# Altium footprint library MPU6050_PCBLIB.PcbLib: 12 footprints
Each footprint in its own frame and in the unit in brackets; x right, y up, seen from the top. Pads: shape width x height; smd on the part's side, far side on the other; paste and mask are expansions set on the pad; w line width, h text height; cw(c..) or ccw(c..) is an arc to the next point about the centre after c.
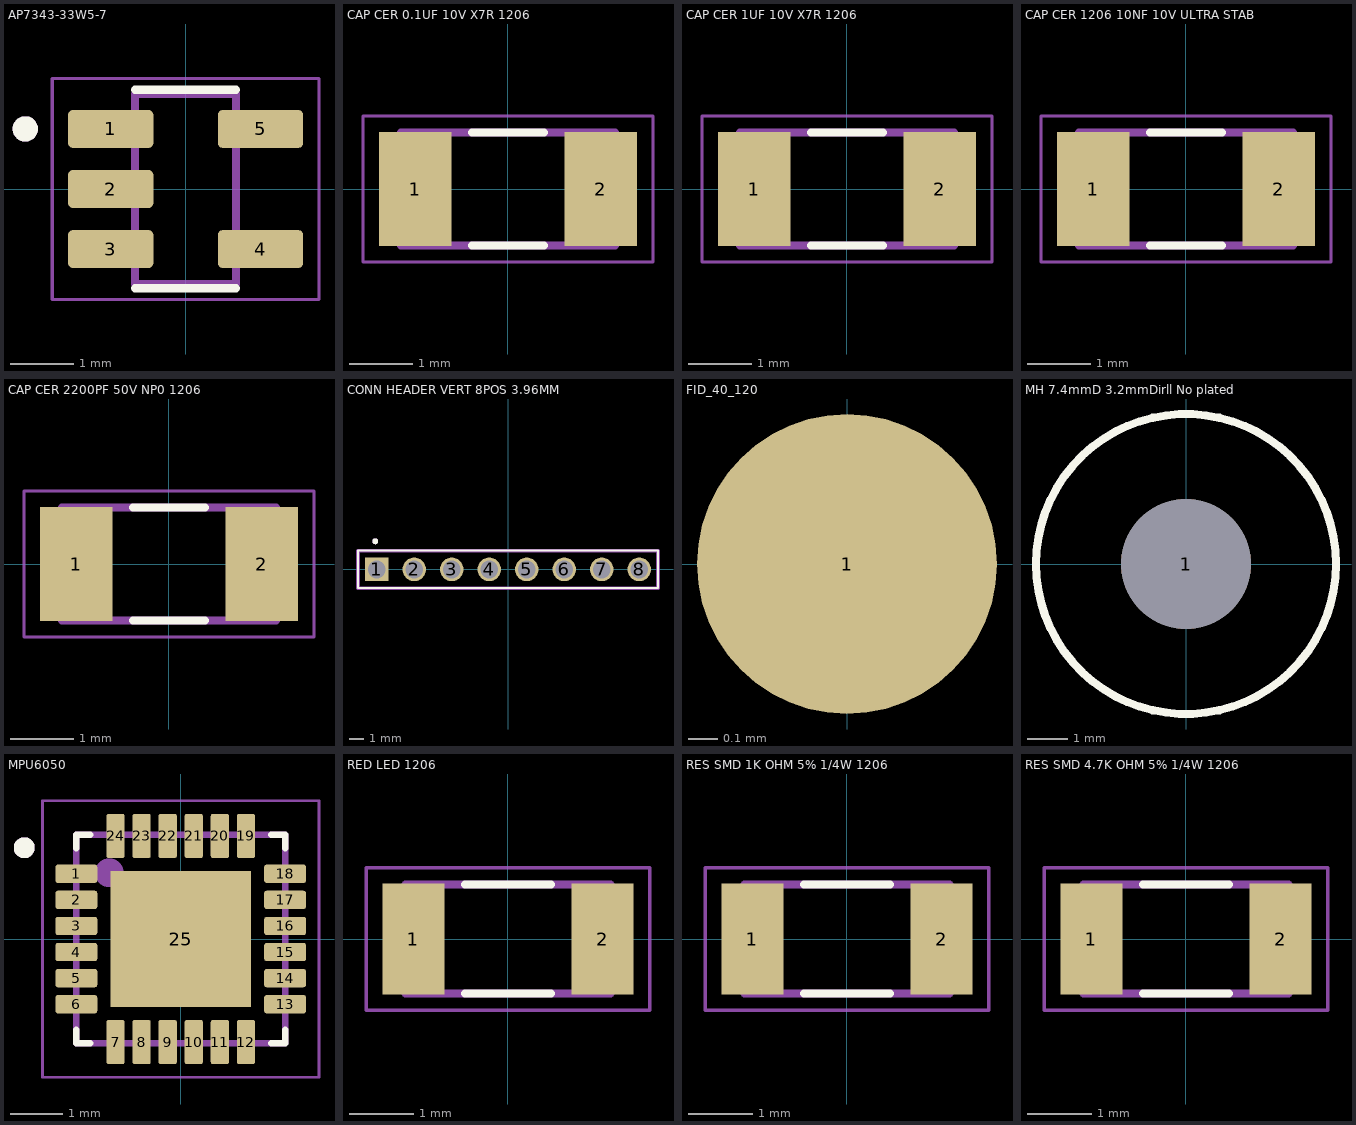
[diagram p0: the footprints below, top view; thin cyan lines are the x and y axes]

## AP7343-33W5-7 [mm] "SOT25"
pads (5):
  rrect25% 1.35x0.6 smd: 1(-1.185,0.95) 2(-1.185,0) 3(-1.185,-0.95) 4(1.185,-0.95) 5(1.185,0.95)
Top Overlay:
  circle w0.2: c-2.535,0.95 r0.1
  lines w0.127: -0.8,-1.57 0.8,-1.57 ; -0.8,1.57 0.8,1.57
Mechanical 15:
  lines w0.05: -2.11,-1.75 2.11,-1.75 2.11,1.75 -2.11,1.75 -2.11,-1.75
Mechanical 29:
  circle w0.2: c-2.535,0.95 r0.1
  lines w0.127: -0.8,-1.5 -0.8,1.5 0.8,1.5 0.8,-1.5 -0.8,-1.5
  text ".Designator" at 0,0 h3
3D body: height 1.4, standoff 0, extent -1.4,-1.5 1.4,1.5

## CAP CER 0.1UF 10V X7R 1206 [mm]
pads (2):
  rect 1.16x1.82 smd: 1(-1.475,0) 2(1.475,0)
Top Overlay:
  lines w0.127: -0.57,-0.9 0.57,-0.9 ; -0.57,0.9 0.57,0.9
Mechanical 15:
  lines w0.05: -2.308,-1.158 2.308,-1.158 2.308,1.158 -2.308,1.158 -2.308,-1.158
Mechanical 29:
  lines w0.127: -1.7,-0.9 1.7,-0.9 1.7,0.9 -1.7,0.9 -1.7,-0.9
  text ".designator" at 0,0 h1
3D body: height 1.4, standoff 0, extent -1.6,-0.8 1.6,0.8

## CAP CER 1UF 10V X7R 1206 [mm]
pads (2):
  rect 1.16x1.82 smd: 1(-1.475,0) 2(1.475,0)
Top Overlay:
  lines w0.127: -0.57,-0.9 0.57,-0.9 ; -0.57,0.9 0.57,0.9
Mechanical 15:
  lines w0.05: -2.308,-1.158 2.308,-1.158 2.308,1.158 -2.308,1.158 -2.308,-1.158
Mechanical 29:
  lines w0.127: -1.7,-0.9 1.7,-0.9 1.7,0.9 -1.7,0.9 -1.7,-0.9
  text ".designator" at 0,0 h1
3D body: height 1.4, standoff 0, extent -1.6,-0.8 1.6,0.8

## CAP CER 1206 10NF 10V ULTRA STAB [mm]
pads (2):
  rect 1.16x1.82 smd: 1(-1.475,0) 2(1.475,0)
Top Overlay:
  lines w0.127: -0.57,-0.9 0.57,-0.9 ; -0.57,0.9 0.57,0.9
Mechanical 15:
  lines w0.05: -2.308,-1.158 2.308,-1.158 2.308,1.158 -2.308,1.158 -2.308,-1.158
Mechanical 29:
  lines w0.127: -1.7,-0.9 1.7,-0.9 1.7,0.9 -1.7,0.9 -1.7,-0.9
  text ".designator" at 0,0 h1
3D body: height 1.4, standoff 0, extent -1.6,-0.8 1.6,0.8

## CAP CER 2200PF 50V NP0 1206 [mm]
pads (2):
  rect 1.16x1.82 smd: 1(-1.475,0) 2(1.475,0)
Top Overlay:
  lines w0.127: -0.57,-0.9 0.57,-0.9 ; -0.57,0.9 0.57,0.9
Mechanical 15:
  lines w0.05: -2.308,-1.158 -2.308,1.158 2.308,1.158 2.308,-1.158 -2.308,-1.158
Mechanical 29:
  lines w0.127: -1.7,-0.9 -1.7,0.9 1.7,0.9 1.7,-0.9 -1.7,-0.9
  text ".designator" at 0,0 h1
3D body: height 1.4, standoff 0, extent -1.6,-0.8 1.6,0.8

## CONN HEADER VERT 8POS 3.96MM [mm]
pads (8):
  rect 1.6x1.6 hole 1.2: 1(-8.89,0)
  round 1.6 hole 1.2: 2(-6.35,0) 3(-3.81,0) 4(-1.27,0) 5(1.27,0) 6(3.81,0) 7(6.35,0) 8(8.89,0)
Top Overlay:
  circle w0.2: c-8.99,1.905 r0.1
  lines w0.127: -10.16,-1.27 10.16,-1.27 10.16,1.27 -10.16,1.27 -10.16,-1.27
Mechanical 13:
  circle w0.2: c-8.99,1.905 r0.1
Mechanical 15:
  lines w0.05: -10.16,-1.27 10.16,-1.27 10.16,1.27 -10.16,1.27 -10.16,-1.27
Mechanical 29:
  circle w0.254: c-8.89,0 r0.224
  lines w0.254: -10.16,-1.27 10.16,-1.27 10.16,1.27 -10.16,1.27 -10.16,-1.27
  text ".Designator" at -10.16,3.175 h3
3D body: height 9.2, standoff -3.5, extent -10.16,-1.27 10.16,1.27

## FID_40_120 [mil]
pads (1):
  round 40 smd paste-40 mask+40: 1(0,0)
Mechanical 29:
  text ".designator" at 0,0 h39.37

## MH 7.4mmD 3.2mmDirll No plated [mm]
pads (1):
  round 3.2 hole 3.2 unplated: 1(0,0)
Top Overlay:
  circle w0.2: c0,0 r3.7
Mechanical 29:
  text ".designator" at 0,0 h1

## MPU6050 [mm] "24 Lead QFN (4x4x0.9) mm NiPdAu Lead-frame finish"
height 0.9
pads (25):
  rrect25% 0.8x0.35 smd: 1(-2,1.25) 2(-2,0.75) 3(-2,0.25) 4(-2,-0.25) 5(-2,-0.75) 6(-2,-1.25) 13(2,-1.25) 14(2,-0.75) 15(2,-0.25) 16(2,0.25) 17(2,0.75) 18(2,1.25)
  rrect25% 0.35x0.85 smd: 7(-1.25,-1.975) 8(-0.75,-1.975) 9(-0.25,-1.975) 10(0.25,-1.975) 11(0.75,-1.975) 12(1.25,-1.975) 19(1.25,1.975) 20(0.75,1.975) 21(0.25,1.975) 22(-0.25,1.975) 23(-0.75,1.975) 24(-1.25,1.975)
  rect 2.7x2.6 smd paste-2: 25(0,0)
Top Overlay:
  circle w0.2: c-3,1.75 r0.1
  lines w0.127: -2,-1.739 -2,-2 -1.739,-2 ; -2,1.739 -2,2 -1.739,2 ; 1.739,-2 2,-2 2,-1.739 ; 1.739,2 2,2 2,1.739
Top Paste:
  region: 0.854,-0.822 -0.854,-0.822 -0.854,0.822 0.854,0.822
Mechanical 15:
  lines w0.05: -2.65,-2.65 2.65,-2.65 2.65,2.65 -2.65,2.65 -2.65,-2.65
Mechanical 29:
  circle w0.2: c-3,1.75 r0.1
  circle w0.5: c-1.372,1.27 r0.025
  lines w0.127: -2,-2 2,-2 2,2 -2,2 -2,-2
  text ".Designator" at 0.025,-0.025 h3
3D body: height 0.93, standoff -0.02, extent -2,-2 2,2

## RED LED 1206 [mm]
pads (2):
  rect 0.97x1.73 smd: 1(-1.48,0) 2(1.48,0)
Top Overlay:
  lines w0.127: -0.67,-0.85 0.67,-0.85 ; -0.67,0.85 0.67,0.85
Mechanical 15:
  lines w0.05: -2.215,-1.115 2.215,-1.115 2.215,1.115 -2.215,1.115 -2.215,-1.115
Mechanical 29:
  lines w0.127: -1.6,-0.85 -1.6,0.85 1.6,0.85 1.6,-0.85 -1.6,-0.85
  text ".Designator" at 0,0 h3
3D body: height 1.1, standoff 0, extent -1.6,-0.8 1.6,0.8

## RES SMD 1K OHM 5% 1/4W 1206 [mm]
pads (2):
  rect 0.97x1.73 smd: 1(-1.48,0) 2(1.48,0)
Top Overlay:
  lines w0.127: -0.67,-0.85 0.67,-0.85 ; -0.67,0.85 0.67,0.85
Mechanical 15:
  lines w0.05: -2.215,-1.115 2.215,-1.115 2.215,1.115 -2.215,1.115 -2.215,-1.115
Mechanical 29:
  lines w0.127: -1.6,-0.85 -1.6,0.85 1.6,0.85 1.6,-0.85 -1.6,-0.85
  text ".Designator" at 0,0 h3
3D body: height 0.65, standoff 0, extent -1.55,-0.8 1.55,0.8

## RES SMD 4.7K OHM 5% 1/4W 1206 [mm]
pads (2):
  rect 0.97x1.73 smd: 1(-1.48,0) 2(1.48,0)
Top Overlay:
  lines w0.127: -0.67,-0.85 0.67,-0.85 ; -0.67,0.85 0.67,0.85
Mechanical 15:
  lines w0.05: -2.215,-1.115 2.215,-1.115 2.215,1.115 -2.215,1.115 -2.215,-1.115
Mechanical 29:
  lines w0.127: -1.6,-0.85 -1.6,0.85 1.6,0.85 1.6,-0.85 -1.6,-0.85
  text ".Designator" at 0,0 h3
3D body: height 0.65, standoff 0, extent -1.55,-0.8 1.55,0.8